# EAGLE library part AD8418 (library power)
IC OPAMP CURR SENSE 250KHZ 8SOIC
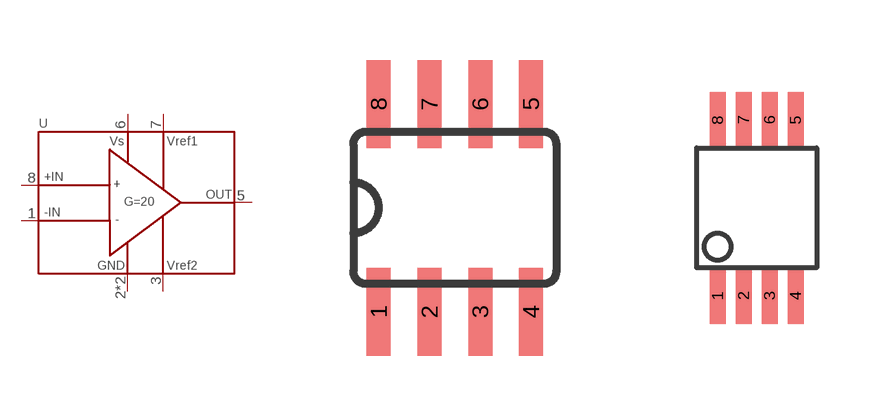
[diagram p7: symbol with the pads of SOIC8; footprints SOIC8, MSOP8]

Designator prefix U

## AD8418WBRZ  [SOIC8]
1  -IN
2  GND
3  VREF2
4  GND
5  OUT
6  VS
7  VREF1
8  +IN

## AD8418BRMZ  [MSOP8]
1  -IN
2  GND
3  VREF2
5  OUT
6  VS
7  VREF1
8  +IN

## Footprint SOIC8 (pad centres in mm)
smd 0.6 x 2.2: 1 -1.905,-2.6; 2 -0.635,-2.6; 3 0.635,-2.6; 4 1.905,-2.6; 5 1.905,2.6; 6 0.635,2.6; 7 -0.635,2.6; 8 -1.905,2.6

## Footprint MSOP8 (pad centres in mm)
smd 0.4 x 1.4: 1 -0.975,-2.2; 2 -0.325,-2.2; 3 0.325,-2.2; 4 0.975,-2.2; 5 0.975,2.2; 6 0.325,2.2; 7 -0.325,2.2; 8 -0.975,2.2